# Altium footprint library PcbLib1.PcbLib: 30 footprints (part 2 of 2)
Each footprint in its own frame and in the unit in brackets; x right, y up, seen from the top. Pads: shape width x height; smd on the part's side, far side on the other; paste and mask are expansions set on the pad; w line width, h text height; cw(c..) or ccw(c..) is an arc to the next point about the centre after c.
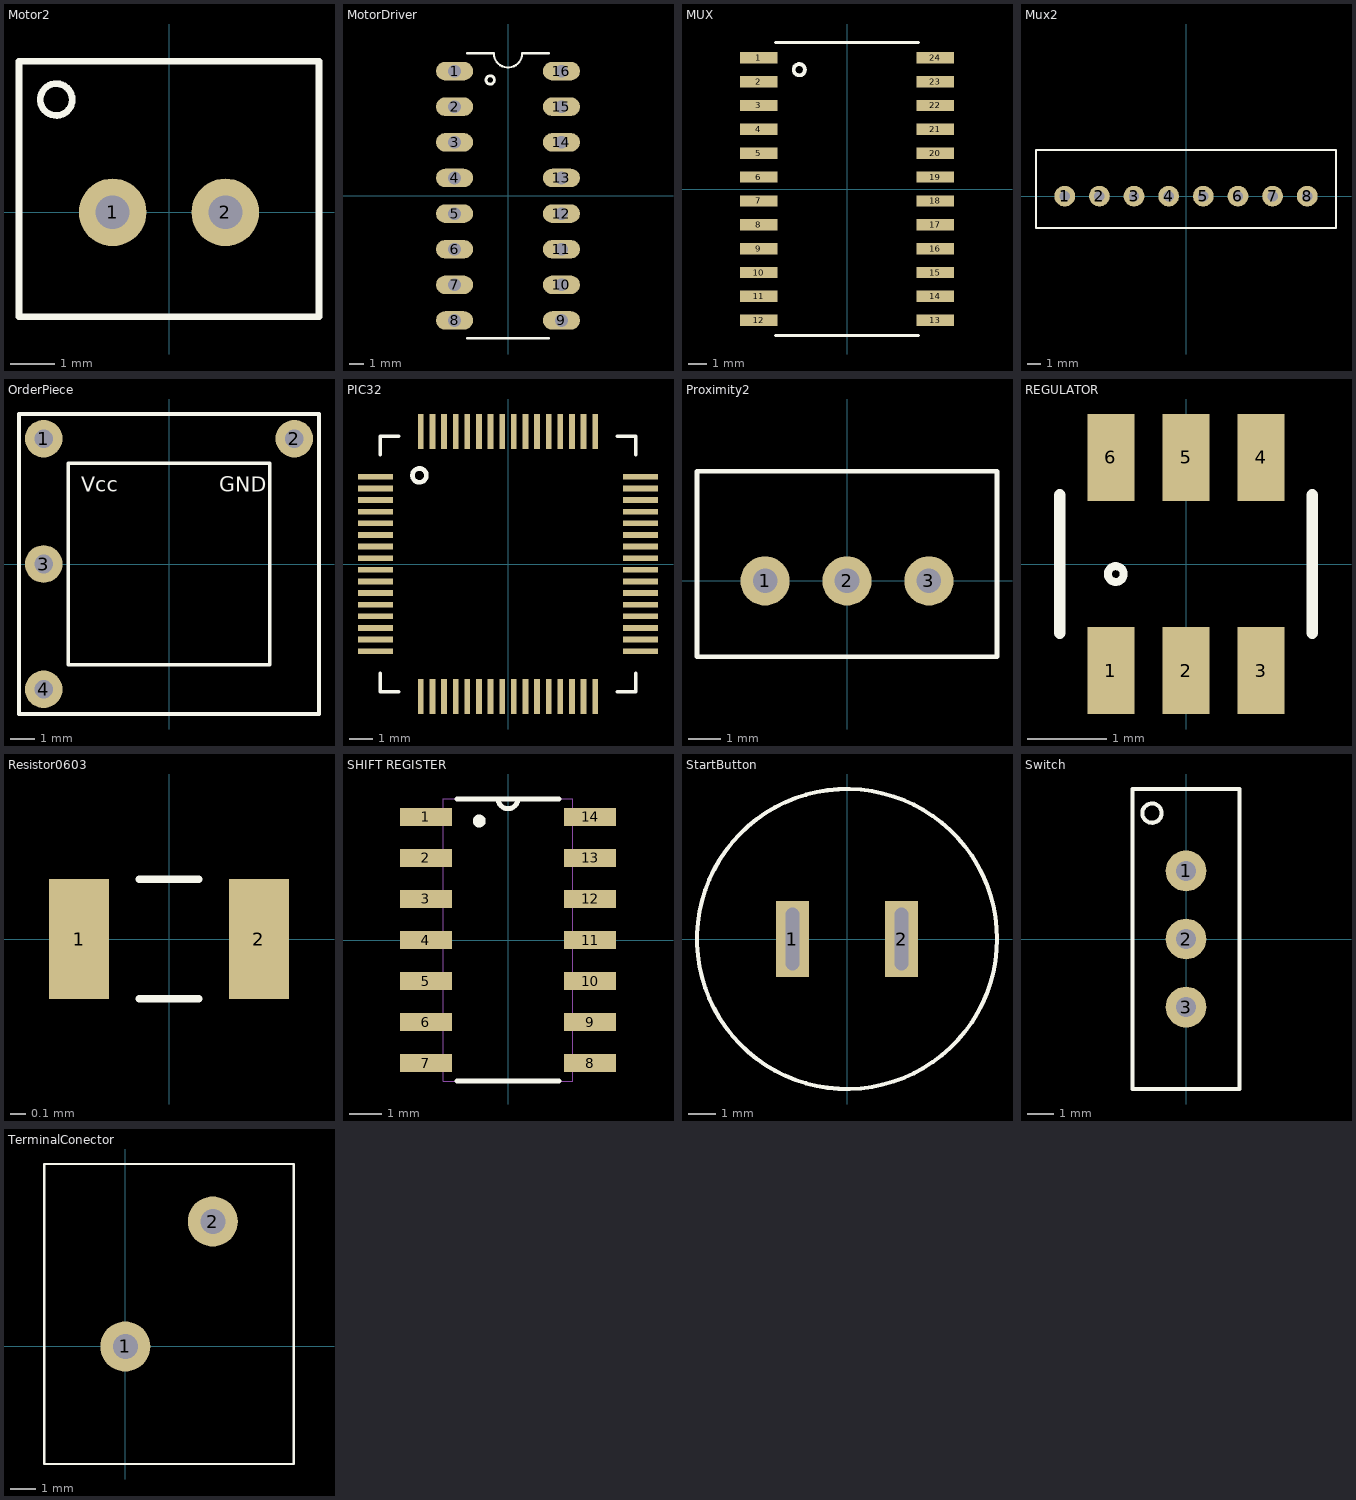
[diagram p1: the footprints below, top view; thin cyan lines are the x and y axes]

## Motor2 [mil]
pads (2):
  round 60 hole 30: 1(-50,0) 2(50,0)
Top Overlay:
  circle w5.91: c-100,100 r14.14
  lines w5.91: -133.07,-92.52 133.07,-92.52 133.07,133.86 -133.07,133.86 -133.07,-92.52

## MotorDriver [mil] "L293DNE"
pads (16):
  oval 104x52 hole 35.43: 1(-150,350) 2(-150,250) 3(-150,150) 4(-150,50) 5(-150,-50) 6(-150,-150) 7(-150,-250) 8(-150,-350) 9(150,-350) 10(150,-250) 11(150,-150) 12(150,-50) 13(150,50) 14(150,150) 15(150,250) 16(150,350)
Top Overlay:
  circle w7.87: c-50,325 r11.81
  lines w6: -115,-400 115,-400 ; -115,400 -40,400 ccw(c0,400) 40,400 115,400

## MUX [mm] "CD74HC4067"
pads (24):
  rect 2x0.6 smd: 1(-4.7,6.985) 2(-4.7,5.715) 3(-4.7,4.445) 4(-4.7,3.175) 5(-4.7,1.905) 6(-4.7,0.635) 7(-4.7,-0.635) 8(-4.7,-1.905) 9(-4.7,-3.175) 10(-4.7,-4.445) 11(-4.7,-5.715) 12(-4.7,-6.985) 13(4.7,-6.985) 14(4.7,-5.715) 15(4.7,-4.445) 16(4.7,-3.175) 17(4.7,-1.905) 18(4.7,-0.635) 19(4.7,0.635) 20(4.7,1.905) 21(4.7,3.175) 22(4.7,4.445) 23(4.7,5.715) 24(4.7,6.985)
Top Overlay:
  circle w0.2: c-2.54,6.35 r0.3
  lines w0.152: -3.8,-7.8 3.8,-7.8 ; -3.8,7.8 3.8,7.8

## Mux2 [mil] "CD74HC4067SM96"
pads (8):
  round 60 hole 30: 1(-350,0) 2(-250,0) 3(-150,0) 4(-50,0) 5(50,0) 6(150,0) 7(250,0) 8(350,0)
Top Overlay:
  lines w5.91: -433.07,-92.52 -433.07,133.86 433.07,133.86 433.07,-92.52 -433.07,-92.52

## OrderPiece [mil]
pads (4):
  round 60 hole 30: 1(-200,200) 2(200,200) 3(-200,0) 4(-200,-200)
Top Overlay:
  lines w5.91: -239.37,-239.37 239.37,-239.37 239.37,239.37 -239.37,239.37 -239.37,-239.37 ; -160.63,-160.63 160.63,-160.63 160.63,160.63 -160.63,160.63 -160.63,-160.63
  text "Vcc" at -140,115 h23.62
  text "GND" at 80,115 h23.62

## PCBComponent_1 - duplicate1 [mm]

## PIC32 [mm] "PIC32MX270F256D"
pads (64):
  rect 1.5x0.25 smd: 1(-5.7,3.75) 2(-5.7,3.25) 3(-5.7,2.75) 4(-5.7,2.25) 5(-5.7,1.75) 6(-5.7,1.25) 7(-5.7,0.75) 8(-5.7,0.25) 9(-5.7,-0.25) 10(-5.7,-0.75) 11(-5.7,-1.25) 12(-5.7,-1.75) 13(-5.7,-2.25) 14(-5.7,-2.75) 15(-5.7,-3.25) 16(-5.7,-3.75) 33(5.7,-3.75) 34(5.7,-3.25) 35(5.7,-2.75) 36(5.7,-2.25) 37(5.7,-1.75) 38(5.7,-1.25) 39(5.7,-0.75) 40(5.7,-0.25) 41(5.7,0.25) 42(5.7,0.75) 43(5.7,1.25) 44(5.7,1.75) 45(5.7,2.25) 46(5.7,2.75) 47(5.7,3.25) 48(5.7,3.75)
  rect 0.25x1.5 smd: 17(-3.75,-5.7) 18(-3.25,-5.7) 19(-2.75,-5.7) 20(-2.25,-5.7) 21(-1.75,-5.7) 22(-1.25,-5.7) 23(-0.75,-5.7) 24(-0.25,-5.7) 25(0.25,-5.7) 26(0.75,-5.7) 27(1.25,-5.7) 28(1.75,-5.7) 29(2.25,-5.7) 30(2.75,-5.7) 31(3.25,-5.7) 32(3.75,-5.7) 49(3.75,5.7) 50(3.25,5.7) 51(2.75,5.7) 52(2.25,5.7) 53(1.75,5.7) 54(1.25,5.7) 55(0.75,5.7) 56(0.25,5.7) 57(-0.25,5.7) 58(-0.75,5.7) 59(-1.25,5.7) 60(-1.75,5.7) 61(-2.25,5.7) 62(-2.75,5.7) 63(-3.25,5.7) 64(-3.75,5.7)
Top Overlay:
  circle w0.2: c-3.81,3.81 r0.3
  lines w0.15: -5.5,-4.7 -5.5,-5.5 -4.7,-5.5 ; -5.5,4.7 -5.5,5.5 -4.7,5.5 ; 4.7,-5.5 5.5,-5.5 5.5,-4.7 ; 4.7,5.5 5.5,5.5 5.5,4.7

## Proximity2 [mil]
pads (3):
  round 60 hole 30: 1(-100,0) 2(0,0) 3(100,0)
Top Overlay:
  lines w5.91: -183.07,-92.52 -183.07,133.86 183.07,133.86 183.07,-92.52 -183.07,-92.52

## REGULATOR [mm]
pads (6):
  rect 0.6x1.1 smd: 1(-0.95,-1.35) 2(0,-1.35) 3(0.95,-1.35) 4(0.95,1.35) 5(0,1.35) 6(-0.95,1.35)
Top Overlay:
  circle w0.1: c-0.889,-0.127 r0.1
  lines w0.15: -1.6,-0.875 -1.6,0.875 ; 1.6,-0.875 1.6,0.875

## Resistor0603 [mm]
pads (2):
  rect 0.4x0.8 smd: 1(-0.6,0) 2(0.6,0)
Top Overlay:
  lines w0.05: -0.2,-0.4 0.2,-0.4 ; -0.2,0.4 0.2,0.4

## SHIFT REGISTER [mil] "74HC164"
pads (14):
  rect 63x22 smd: 1(-100,150) 2(-100,100) 3(-100,50) 4(-100,0) 5(-100,-50) 6(-100,-100) 7(-100,-150) 8(100,-150) 9(100,-100) 10(100,-50) 11(100,0) 12(100,50) 13(100,100) 14(100,150)
Top Overlay:
  circle w7.87: c-35,145 r3.94
  lines w6: -62,-172 62,-172 ; -62,172 -12,172 ; 62,172 12,172 ; -12,172 ccw(c0,172) 12,172 ; -12,172 12,172
Mechanical 1:
  lines w0: -12,172 ccw(c0,172) 12,172 ; -12,172 -79,172 -79,-172 79,-172 79,172 12,172 ; -12,172 12,172 ; -118,-160 -79,-160 -79,-140 -118,-140 -118,-160 ; -118,-110 -79,-110 -79,-90 -118,-90 -118,-110 ; -118,-60 -79,-60 -79,-40 -118,-40 -118,-60 ; -118,-10 -79,-10 -79,10 -118,10 -118,-10 ; -118,40 -79,40 -79,60 -118,60 -118,40 ; -118,90 -79,90 -79,110 -118,110 -118,90 ; -118,140 -79,140 -79,160 -118,160 -118,140 ; 79,-160 118,-160 118,-140 79,-140 79,-160 ; 79,-110 118,-110 118,-90 79,-90 79,-110 ; 79,-60 118,-60 118,-40 79,-40 79,-60 ; 79,-10 118,-10 118,10 79,10 79,-10 ; 79,40 118,40 118,60 79,60 79,40 ; 79,90 118,90 118,110 79,110 79,90 ; 79,140 118,140 118,160 79,160 79,140

## StartButton [mm] "R13-509A-05-BB"
pads (2):
  rect 1.2x2.8 hole 0.5 slot 2.3 at 90 deg: 1(-2,0) 2(2,0)
Top Overlay:
  circle w0.15: c0,0 r5.5

## Switch [mil] "SS12SDP2"
pads (3):
  round 60 hole 30: 1(0,100) 2(0,0) 3(0,-100)
Top Overlay:
  circle w5.91: c-50,185 r14.14
  lines w5.91: -78.74,-220.47 -78.74,220.47 78.74,220.47 78.74,-220.47 -78.74,-220.47

## TerminalConector [mm]
pads (2):
  round 2 hole 1: 1(0,0) 2(3.5,5)
Top Overlay:
  lines w0.1: -3.25,-4.7 -3.25,7.3 6.75,7.3 6.75,-4.7 -3.25,-4.7